# Altium schematic symbol library SCH - MCU - STM32 - ST MICROELECTRONICS STM32WBA52KEUX UFQFPN32.SchLib: 1 symbol
Pins are listed as number, name and electrical type; pins without a type are passive.

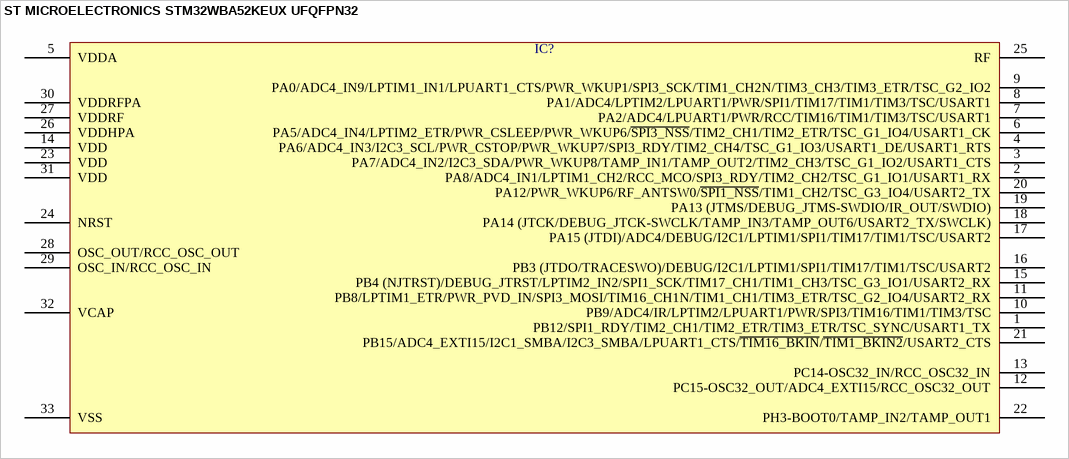
[diagram p0: symbol ST MICROELECTRONICS STM32WBA52KEUX UFQFPN32]

## ST MICROELECTRONICS STM32WBA52KEUX UFQFPN32
designator IC?  (value not drawn)
pins: 1 PB12/SPI1_RDY/TIM2_CH1/TIM2_ETR/TIM3_ETR/TSC_SYNC/USART1_TX, 2 PA8/ADC4_IN1/LPTIM1_CH2/RCC_MCO/SPI3_RDY/TIM2_CH2/TSC_G1_IO1/USART1_RX, 3 PA7/ADC4_IN2/I2C3_SDA/PWR_WKUP8/TAMP_IN1/TAMP_OUT2/TIM2_CH3/TSC_G1_IO2/USART1_CTS, 4 PA6/ADC4_IN3/I2C3_SCL/PWR_CSTOP/PWR_WKUP7/SPI3_RDY/TIM2_CH4/TSC_G1_IO3/USART1_DE/USART1_RTS, 5 VDDA, 6 PA5/ADC4_IN4/LPTIM2_ETR/PWR_CSLEEP/PWR_WKUP6/~{SPI3_NSS}/TIM2_CH1/TIM2_ETR/TSC_G1_IO4/USART1_CK, 7 PA2/ADC4/LPUART1/PWR/RCC/TIM16/TIM1/TIM3/TSC/USART1, 8 PA1/ADC4/LPTIM2/LPUART1/PWR/SPI1/TIM17/TIM1/TIM3/TSC/USART1, 9 PA0/ADC4_IN9/LPTIM1_IN1/LPUART1_CTS/PWR_WKUP1/SPI3_SCK/TIM1_CH2N/TIM3_CH3/TIM3_ETR/TSC_G2_IO2, 10 PB9/ADC4/IR/LPTIM2/LPUART1/PWR/SPI3/TIM16/TIM1/TIM3/TSC, 11 PB8/LPTIM1_ETR/PWR_PVD_IN/SPI3_MOSI/TIM16_CH1N/TIM1_CH1/TIM3_ETR/TSC_G2_IO4/USART2_RX, 12 PC15-OSC32_OUT/ADC4_EXTI15/RCC_OSC32_OUT, 13 PC14-OSC32_IN/RCC_OSC32_IN, 14 VDD, 15 PB4 (NJTRST)/DEBUG_JTRST/LPTIM2_IN2/SPI1_SCK/TIM17_CH1/TIM1_CH3/TSC_G3_IO1/USART2_RX, 16 PB3 (JTDO/TRACESWO)/DEBUG/I2C1/LPTIM1/SPI1/TIM17/TIM1/TSC/USART2, 17 PA15 (JTDI)/ADC4/DEBUG/I2C1/LPTIM1/SPI1/TIM17/TIM1/TSC/USART2, 18 PA14 (JTCK/DEBUG_JTCK-SWCLK/TAMP_IN3/TAMP_OUT6/USART2_TX/SWCLK), 19 PA13 (JTMS/DEBUG_JTMS-SWDIO/IR_OUT/SWDIO), 20 PA12/PWR_WKUP6/RF_ANTSW0/~{SPI1_NSS}/TIM1_CH2/TSC_G3_IO4/USART2_TX, 21 PB15/ADC4_EXTI15/I2C1_SMBA/I2C3_SMBA/LPUART1_CTS/~{TIM16_BKIN}/~{TIM1_BKIN2}/USART2_CTS, 22 PH3-BOOT0/TAMP_IN2/TAMP_OUT1, 23 VDD, 24 NRST, 25 RF, 26 VDDHPA, 27 VDDRF, 28 OSC_OUT/RCC_OSC_OUT, 29 OSC_IN/RCC_OSC_IN, 30 VDDRFPA, 31 VDD, 32 VCAP, 33 VSS